# Altium footprint library SparkFun-Aesthetics.PCBLIB: 96 footprints (part 6 of 6)
Each footprint in its own frame and in the unit in brackets; x right, y up, seen from the top. Pads: shape width x height; smd on the part's side, far side on the other; paste and mask are expansions set on the pad; w line width, h text height; cw(c..) or ccw(c..) is an arc to the next point about the centre after c.
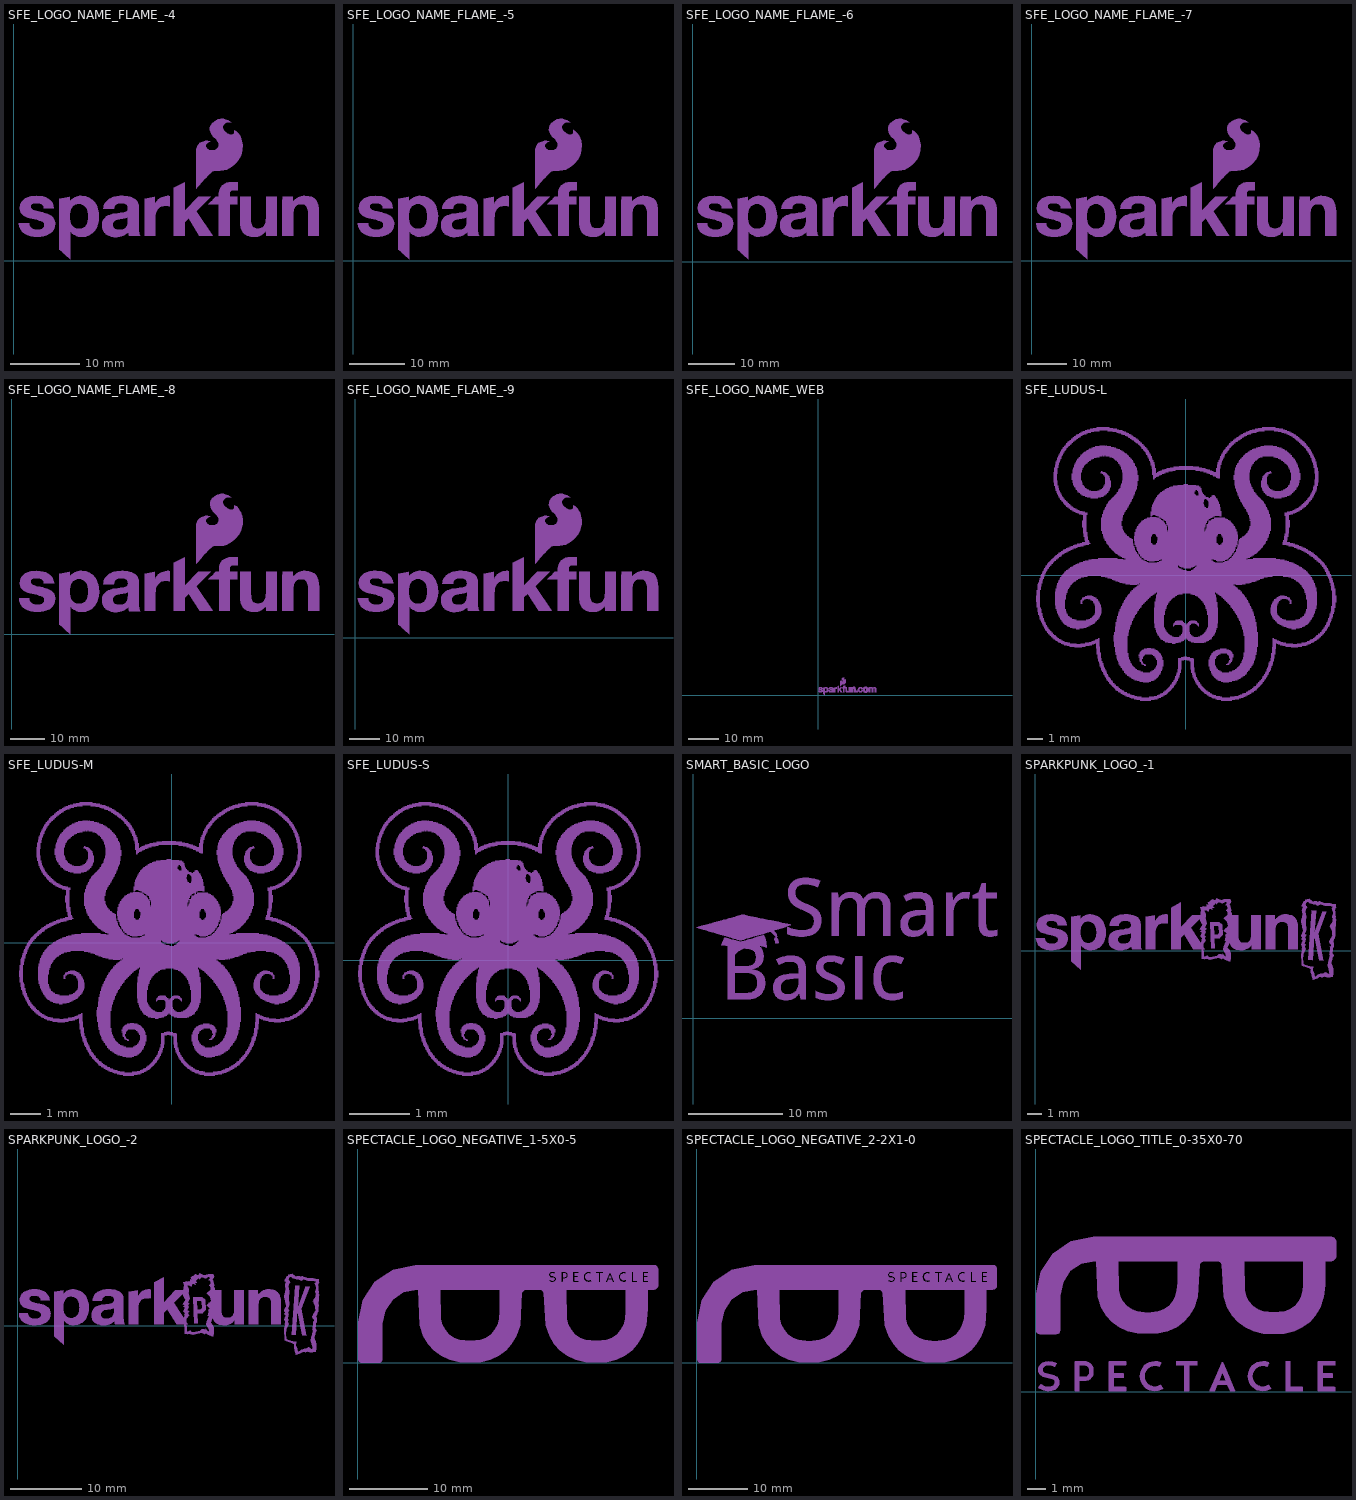
[diagram p5: the footprints below, top view; thin cyan lines are the x and y axes]

## SFE_LOGO_NAME_FLAME_-4 [mm]
tPlace:
  drawing of 11 lines, arcs and shapes, not listed

## SFE_LOGO_NAME_FLAME_-5 [mm]
tPlace:
  drawing of 11 lines, arcs and shapes, not listed

## SFE_LOGO_NAME_FLAME_-6 [mm]
tPlace:
  drawing of 11 lines, arcs and shapes, not listed

## SFE_LOGO_NAME_FLAME_-7 [mm]
tPlace:
  drawing of 11 lines, arcs and shapes, not listed

## SFE_LOGO_NAME_FLAME_-8 [mm]
tPlace:
  drawing of 11 lines, arcs and shapes, not listed

## SFE_LOGO_NAME_FLAME_-9 [mm]
tPlace:
  drawing of 11 lines, arcs and shapes, not listed

## SFE_LOGO_NAME_WEB [mm]
tPlace:
  drawing of 68 lines, arcs and shapes, not listed

## SFE_LUDUS-L [mm]
tPlace:
  drawing of 2445 lines, arcs and shapes, not listed

## SFE_LUDUS-M [mm]
tPlace:
  drawing of 2451 lines, arcs and shapes, not listed

## SFE_LUDUS-S [mm]
tPlace:
  drawing of 2450 lines, arcs and shapes, not listed

## SMART_BASIC_LOGO [mm]
tPlace:
  drawing of 21 lines, arcs and shapes, not listed

## SPARKPUNK_LOGO_-1 [mm]
tPlace:
  drawing of 17 lines, arcs and shapes, not listed

## SPARKPUNK_LOGO_-2 [mm]
tPlace:
  drawing of 17 lines, arcs and shapes, not listed

## SPECTACLE_LOGO_NEGATIVE_1-5X0-5 [mm]
tPlace:
  drawing of 7 lines, arcs and shapes, not listed

## SPECTACLE_LOGO_NEGATIVE_2-2X1-0 [mm]
tPlace:
  drawing of 7 lines, arcs and shapes, not listed

## SPECTACLE_LOGO_TITLE_0-35X0-70 [mm]
tPlace:
  drawing of 14 lines, arcs and shapes, not listed